# Altium schematic symbol library CN 6POS JST RA.Schlib: 1 symbol
Pins are listed as number, name and electrical type; pins without a type are passive.

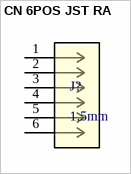
[diagram p0: symbol CN 6POS JST RA]

## CN 6POS JST RA
designator J?, comment 1.5mm
Conn Shrouded Header HDR 6 POS 1.5mm Solder RA Thru-Hole Box
pins: 1, 2, 3, 4, 5, 6